# Altium integrated library Analog_Devices_Power_Management_Linear_Regulators.IntLib: 441 symbols (part 9 of 23)
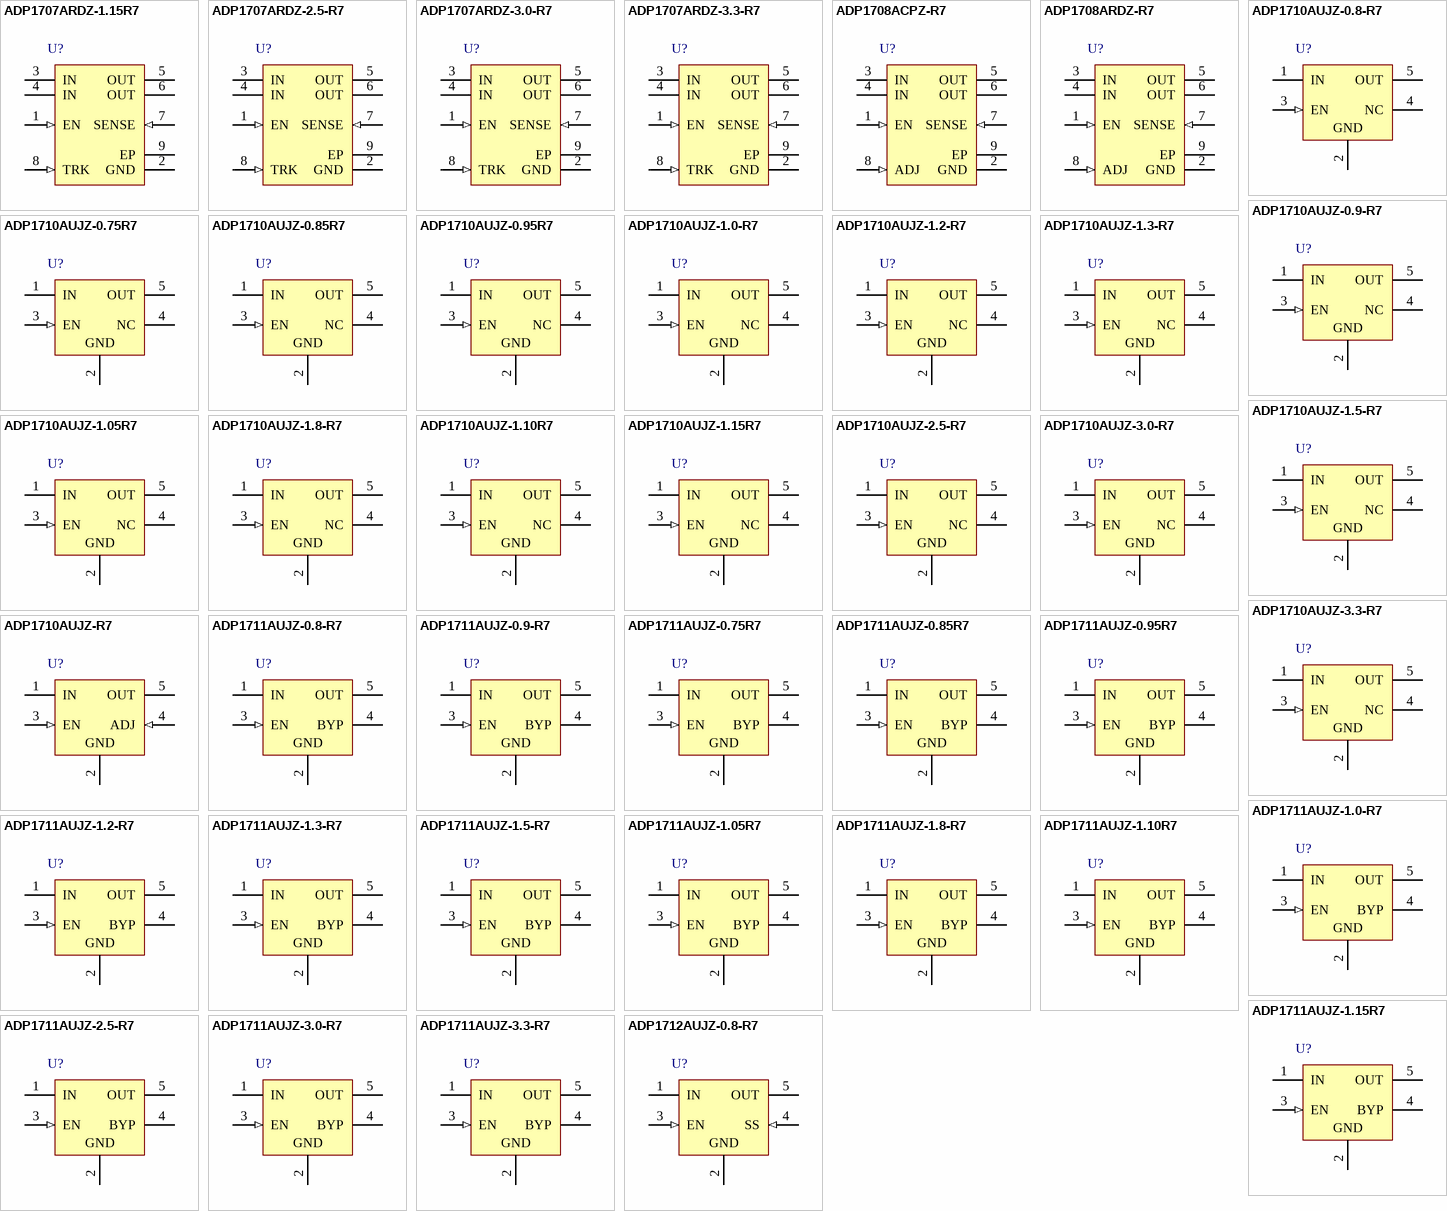
[diagram p19: symbols ADP1707ARDZ-1.15R7 to ADP1712AUJZ-0.8-R7]

## ADP1708ARDZ-R7
designator U?
1 A, Low Dropout, CMOS Linear Regulator, 2.5 to 5.5 V Vin, 0.8 to 5 V Vout, Industrial, 8-pin SOIC (RD-8-2), Reel; Manufacturer: Analog Devices; PartNumber: ADP1708ARDZ-R7; Iout max: 1A; Supply Current IGND @ Small Load: 50uA; Vin (max) (V): 5.5; Vin (min) (V): 2.5; Vout Adjustable Range: 0.8V to 5V; DatasheetVersion: Rev. 0; PackageVersion: Jan-05; PackageReference: RD-8-2; PackageDescription: 8-Pin Standard Small Outline Package, Body 4.9 x 3.9 mm, Pitch 1.27 mm; Supplier 1: Digi-Key; Supplier Part Number 1: ADP1708ARDZ-R7TR-ND; Supplier 2: Digi-Key; Supplier Part Number 2: ADP1708ARDZ-R7CT-ND; Supplier 3: Digi-Key; Supplier Part Number 3: ADP1708ARDZ-R7DKR-ND; Supplier 4: Farnell; Supplier Part Number 4: 2376936; Supplier 5: Newark; Supplier Part Number 5: 23X6016; Supplier 6: Newark; Supplier Part Number 6: 64M7471; Supplier 7: Mouser; Supplier Part Number 7: 584-ADP1708ARDZ-R7; Packing: Reel; Mounting Technology: Surface Mount; Code_JEDEC: MS-012-AA; ComponentLink1Description: Manufacturer URL; ComponentLink1URL: http://www.analog.com/en/index.html; ComponentLink2Description: Datasheet; ComponentLink2URL: http://www.analog.com/static/imported-files/data_sheets/ADP1706_1707_1708.pdf; ComponentLink3Description: Package Specification; ComponentLink3URL: http://www.analog.com/static/imported-files/packages/62062404671038RD_8_2.pdf; ComponentLink4Description: URL Link1; ComponentLink4URL: Product URL:http://www.analog.com/en/ADP1708/productSearch.html
footprint ADI-RD-8-2_N (SOIC, 8-Leads, Body 4.9x3.9mm, Pitch 1.27mm, Thermal Pad 3.098x2.41mm, IPC Medium Density)
footprint ADI-RD-8-2_L (SOIC, 8-Leads, Body 4.9x3.9mm, Pitch 1.27mm, Thermal Pad 3.098x2.41mm, IPC High Density)
footprint ADI-RD-8-2_M (SOIC, 8-Leads, Body 4.9x3.9mm, Pitch 1.27mm, Thermal Pad 3.098x2.41mm, IPC Low Density)
pins: 1 EN (in) "Enable Input. Drive EN high to turn on the regulator; drive it low to turn off the regulator. For automatic startup, connect EN to IN.", 2 GND (power) "Ground.", 3 IN (power) "Regulator Input Supply. Bypass IN to GND with a 4.7 uF or greater capacitor.", 4 IN (power) "Regulator Input Supply. Bypass IN to GND with a 4.7 uF or greater capacitor.", 5 OUT (power) "Regulated Output Voltage. Bypass OUT to GND with a 4.7 uF or greater capacitor.", 6 OUT (power) "Regulated Output Voltage. Bypass OUT to GND with a 4.7 uF or greater capacitor.", 7 SENSE (in) "Sense. Measures the actual output voltage at the load and feeds it to the error amplifier. Connect SENSE as close as possible to the load to minimize the effect of IR drop between the regulator output and the load.", 8 ADJ (in) "Adjust. A resistor divider from OUT to ADJ sets the output voltage.", 9 EP (power) "The exposed pad on the bottom of the SOIC package and the LFCSP package. EP enhances thermal performance and is electrically connected to GND inside the package. User is recommended to connect EP to the ground plane on the (See Datasheet)"

## ADP1710AUJZ-0.8-R7
designator U?
150 mA, Low Dropout, CMOS Linear Regulator, 2.5 to 5.5 V Vin, 0.8 V Vout, Industrial, 5-pin SOT23 (UJ-5), Reel; Manufacturer: Analog Devices; PartNumber: ADP1710AUJZ-0.8-R7; Iout max: 150mA; Preset Vout Values (V): 0.8; Supply Current IGND @ Small Load: 35uA; Vin (max) (V): 5.5; Vin (min) (V): 2.5; DatasheetVersion: Rev. 0; PackageVersion: 100708-A, 10/2008; PackageReference: UJ-5; PackageDescription: 5-Pin Thin Small Outline Transistor Package, Body 2.9 x 1.6 mm, Pitch 0.95 mm; Supplier 1: Digi-Key; Supplier Part Number 1: ADP1710AUJZ-0.8-R7TR-ND; Supplier 2: Digi-Key; Supplier Part Number 2: ADP1710AUJZ-0.8-R7CT-ND; Supplier 3: Digi-Key; Supplier Part Number 3: ADP1710AUJZ-0.8-R7DKR-ND; Supplier 4: Newark; Supplier Part Number 4: 28M3773; Supplier 5: Mouser; Supplier Part Number 5: 584-ADP1710AUJZ0.8R7; Packing: Reel; Mounting Technology: Surface Mount; Code_JEDEC: MO-193-AB; ComponentLink1Description: Manufacturer URL; ComponentLink1URL: http://www.analog.com/en/index.html; ComponentLink2Description: Datasheet; ComponentLink2URL: http://www.analog.com/static/imported-files/data_sheets/ADP1710_1711.pdf; ComponentLink3Description: Package Specification; ComponentLink3URL: http:/www.analog.com/static/imported-files/packages/PKG_PDF/TSOT(UJ)/UJ_5.pdf; ComponentLink4Description: URL Link1; ComponentLink4URL: Product URL:http://www.analog.com/en/ADP1710/productSearch.html
footprint ADI-UJ-5_N (SOT23, 5-Leads, Body 2.9x1.6mm, Pitch 0.95mm, IPC Medium Density)
footprint ADI-UJ-5_L (SOT23, 5-Leads, Body 2.9x1.6mm, Pitch 0.95mm, IPC High Density)
footprint ADI-UJ-5_M (SOT23, 5-Leads, Body 2.9x1.6mm, Pitch 0.95mm, IPC Low Density)
pins: 1 IN (power) "Regulator Input Supply. Bypass IN to GND with a 1 uF or greater capacitor.", 2 GND (power) "Ground.", 3 EN (in) "Enable Input. Drive EN high to turn on the regulator; drive it low to turn off the regulator. For automatic startup, connect EN to IN.", 4 NC "No Connect.", 5 OUT (power) "Regulated Output Voltage. Bypass OUT to GND with a 1 uF or greater capacitor."

## ADP1710AUJZ-0.9-R7
designator U?
150 mA, Low Dropout, CMOS Linear Regulator, 2.5 to 5.5 V Vin, 0.9 V Vout, Industrial, 5-pin SOT23 (UJ-5), Reel; Manufacturer: Analog Devices; PartNumber: ADP1710AUJZ-0.9-R7; Iout max: 150mA; Preset Vout Values (V): 0.9; Supply Current IGND @ Small Load: 35uA; Vin (max) (V): 5.5; Vin (min) (V): 2.5; DatasheetVersion: Rev. 0; PackageVersion: 100708-A, 10/2008; PackageReference: UJ-5; PackageDescription: 5-Pin Thin Small Outline Transistor Package, Body 2.9 x 1.6 mm, Pitch 0.95 mm; Supplier 1: Digi-Key; Supplier Part Number 1: ADP1710AUJZ-0.9-R7TR-ND; Supplier 2: Digi-Key; Supplier Part Number 2: ADP1710AUJZ-0.9-R7CT-ND; Supplier 3: Digi-Key; Supplier Part Number 3: ADP1710AUJZ-0.9-R7DKR-ND; Supplier 4: Mouser; Supplier Part Number 4: 584-ADP1710AUJZ0.9R7; Packing: Reel; Mounting Technology: Surface Mount; Code_JEDEC: MO-193-AB; ComponentLink1Description: Manufacturer URL; ComponentLink1URL: http://www.analog.com/en/index.html; ComponentLink2Description: Datasheet; ComponentLink2URL: http://www.analog.com/static/imported-files/data_sheets/ADP1710_1711.pdf; ComponentLink3Description: Package Specification; ComponentLink3URL: http:/www.analog.com/static/imported-files/packages/PKG_PDF/TSOT(UJ)/UJ_5.pdf; ComponentLink4Description: URL Link1; ComponentLink4URL: Product URL:http://www.analog.com/en/ADP1710/productSearch.html
footprint ADI-UJ-5_N (SOT23, 5-Leads, Body 2.9x1.6mm, Pitch 0.95mm, IPC Medium Density)
footprint ADI-UJ-5_L (SOT23, 5-Leads, Body 2.9x1.6mm, Pitch 0.95mm, IPC High Density)
footprint ADI-UJ-5_M (SOT23, 5-Leads, Body 2.9x1.6mm, Pitch 0.95mm, IPC Low Density)
pins: 1 IN (power) "Regulator Input Supply. Bypass IN to GND with a 1 uF or greater capacitor.", 2 GND (power) "Ground.", 3 EN (in) "Enable Input. Drive EN high to turn on the regulator; drive it low to turn off the regulator. For automatic startup, connect EN to IN.", 4 NC "No Connect.", 5 OUT (power) "Regulated Output Voltage. Bypass OUT to GND with a 1 uF or greater capacitor."

## ADP1710AUJZ-0.75R7
designator U?
150 mA, Low Dropout, CMOS Linear Regulator, 2.5 to 5.5 V Vin, 0.75 V Vout, Industrial, 5-pin SOT23 (UJ-5), Reel; Manufacturer: Analog Devices; PartNumber: ADP1710AUJZ-0.75R7; Iout max: 150mA; Preset Vout Values (V): 0.75; Supply Current IGND @ Small Load: 35uA; Vin (max) (V): 5.5; Vin (min) (V): 2.5; DatasheetVersion: Rev. 0; PackageVersion: 100708-A, 10/2008; PackageReference: UJ-5; PackageDescription: 5-Pin Thin Small Outline Transistor Package, Body 2.9 x 1.6 mm, Pitch 0.95 mm; Supplier 1: Digi-Key; Supplier Part Number 1: ADP1710AUJZ-0.75R7TR-ND; Supplier 2: Digi-Key; Supplier Part Number 2: ADP1710AUJZ-0.75R7CT-ND; Supplier 3: Digi-Key; Supplier Part Number 3: ADP1710AUJZ-0.75R7DKR-ND; Supplier 4: Mouser; Supplier Part Number 4: 584-AP1710AUJZ0.75R7; Packing: Reel; Mounting Technology: Surface Mount; Code_JEDEC: MO-193-AB; ComponentLink1Description: Manufacturer URL; ComponentLink1URL: http://www.analog.com/en/index.html; ComponentLink2Description: Datasheet; ComponentLink2URL: http://www.analog.com/static/imported-files/data_sheets/ADP1710_1711.pdf; ComponentLink3Description: Package Specification; ComponentLink3URL: http:/www.analog.com/static/imported-files/packages/PKG_PDF/TSOT(UJ)/UJ_5.pdf; ComponentLink4Description: URL Link1; ComponentLink4URL: Product URL:http://www.analog.com/en/ADP1710/productSearch.html
footprint ADI-UJ-5_N (SOT23, 5-Leads, Body 2.9x1.6mm, Pitch 0.95mm, IPC Medium Density)
footprint ADI-UJ-5_L (SOT23, 5-Leads, Body 2.9x1.6mm, Pitch 0.95mm, IPC High Density)
footprint ADI-UJ-5_M (SOT23, 5-Leads, Body 2.9x1.6mm, Pitch 0.95mm, IPC Low Density)
pins: 1 IN (power) "Regulator Input Supply. Bypass IN to GND with a 1 uF or greater capacitor.", 2 GND (power) "Ground.", 3 EN (in) "Enable Input. Drive EN high to turn on the regulator; drive it low to turn off the regulator. For automatic startup, connect EN to IN.", 4 NC "No Connect.", 5 OUT (power) "Regulated Output Voltage. Bypass OUT to GND with a 1 uF or greater capacitor."

## ADP1710AUJZ-0.85R7
designator U?
150 mA, Low Dropout, CMOS Linear Regulator, 2.5 to 5.5 V Vin, 0.85 V Vout, Industrial, 5-pin SOT23 (UJ-5), Reel; Manufacturer: Analog Devices; PartNumber: ADP1710AUJZ-0.85R7; Iout max: 150mA; Preset Vout Values (V): 0.85; Supply Current IGND @ Small Load: 35uA; Vin (max) (V): 5.5; Vin (min) (V): 2.5; DatasheetVersion: Rev. 0; PackageVersion: 100708-A, 10/2008; PackageReference: UJ-5; PackageDescription: 5-Pin Thin Small Outline Transistor Package, Body 2.9 x 1.6 mm, Pitch 0.95 mm; Supplier 1: Digi-Key; Supplier Part Number 1: ADP1710AUJZ-0.85R7TR-ND; Supplier 2: Digi-Key; Supplier Part Number 2: ADP1710AUJZ-0.85R7CT-ND; Supplier 3: Digi-Key; Supplier Part Number 3: ADP1710AUJZ-0.85R7DKR-ND; Supplier 4: Mouser; Supplier Part Number 4: 584-AP1710AUJZ0.85R7; Packing: Reel; Mounting Technology: Surface Mount; Code_JEDEC: MO-193-AB; ComponentLink1Description: Manufacturer URL; ComponentLink1URL: http://www.analog.com/en/index.html; ComponentLink2Description: Datasheet; ComponentLink2URL: http://www.analog.com/static/imported-files/data_sheets/ADP1710_1711.pdf; ComponentLink3Description: Package Specification; ComponentLink3URL: http:/www.analog.com/static/imported-files/packages/PKG_PDF/TSOT(UJ)/UJ_5.pdf; ComponentLink4Description: URL Link1; ComponentLink4URL: Product URL:http://www.analog.com/en/ADP1710/productSearch.html
footprint ADI-UJ-5_N (SOT23, 5-Leads, Body 2.9x1.6mm, Pitch 0.95mm, IPC Medium Density)
footprint ADI-UJ-5_L (SOT23, 5-Leads, Body 2.9x1.6mm, Pitch 0.95mm, IPC High Density)
footprint ADI-UJ-5_M (SOT23, 5-Leads, Body 2.9x1.6mm, Pitch 0.95mm, IPC Low Density)
pins: 1 IN (power) "Regulator Input Supply. Bypass IN to GND with a 1 uF or greater capacitor.", 2 GND (power) "Ground.", 3 EN (in) "Enable Input. Drive EN high to turn on the regulator; drive it low to turn off the regulator. For automatic startup, connect EN to IN.", 4 NC "No Connect.", 5 OUT (power) "Regulated Output Voltage. Bypass OUT to GND with a 1 uF or greater capacitor."

## ADP1710AUJZ-0.95R7
designator U?
150 mA, Low Dropout, CMOS Linear Regulator, 2.5 to 5.5 V Vin, 0.95 V Vout, Industrial, 5-pin SOT23 (UJ-5), Reel; Manufacturer: Analog Devices; PartNumber: ADP1710AUJZ-0.95R7; Iout max: 150mA; Preset Vout Values (V): 0.95; Supply Current IGND @ Small Load: 35uA; Vin (max) (V): 5.5; Vin (min) (V): 2.5; DatasheetVersion: Rev. 0; PackageVersion: 100708-A, 10/2008; PackageReference: UJ-5; PackageDescription: 5-Pin Thin Small Outline Transistor Package, Body 2.9 x 1.6 mm, Pitch 0.95 mm; Supplier 1: Digi-Key; Supplier Part Number 1: ADP1710AUJZ-0.95R7TR-ND; Supplier 2: Digi-Key; Supplier Part Number 2: ADP1710AUJZ-0.95R7CT-ND; Supplier 3: Digi-Key; Supplier Part Number 3: ADP1710AUJZ-0.95R7DKR-ND; Supplier 4: Mouser; Supplier Part Number 4: 584-AP1710AUJZ0.95R7; Packing: Reel; Mounting Technology: Surface Mount; Code_JEDEC: MO-193-AB; ComponentLink1Description: Manufacturer URL; ComponentLink1URL: http://www.analog.com/en/index.html; ComponentLink2Description: Datasheet; ComponentLink2URL: http://www.analog.com/static/imported-files/data_sheets/ADP1710_1711.pdf; ComponentLink3Description: Package Specification; ComponentLink3URL: http:/www.analog.com/static/imported-files/packages/PKG_PDF/TSOT(UJ)/UJ_5.pdf; ComponentLink4Description: URL Link1; ComponentLink4URL: Product URL:http://www.analog.com/en/ADP1710/productSearch.html
footprint ADI-UJ-5_N (SOT23, 5-Leads, Body 2.9x1.6mm, Pitch 0.95mm, IPC Medium Density)
footprint ADI-UJ-5_L (SOT23, 5-Leads, Body 2.9x1.6mm, Pitch 0.95mm, IPC High Density)
footprint ADI-UJ-5_M (SOT23, 5-Leads, Body 2.9x1.6mm, Pitch 0.95mm, IPC Low Density)
pins: 1 IN (power) "Regulator Input Supply. Bypass IN to GND with a 1 uF or greater capacitor.", 2 GND (power) "Ground.", 3 EN (in) "Enable Input. Drive EN high to turn on the regulator; drive it low to turn off the regulator. For automatic startup, connect EN to IN.", 4 NC "No Connect.", 5 OUT (power) "Regulated Output Voltage. Bypass OUT to GND with a 1 uF or greater capacitor."

## ADP1710AUJZ-1.0-R7
designator U?
150 mA, Low Dropout, CMOS Linear Regulator, 2.5 to 5.5 V Vin, 1 V Vout, Industrial, 5-pin SOT23 (UJ-5), Reel; Manufacturer: Analog Devices; PartNumber: ADP1710AUJZ-1.0-R7; Iout max: 150mA; Preset Vout Values (V): 1.0; Supply Current IGND @ Small Load: 35uA; Vin (max) (V): 5.5; Vin (min) (V): 2.5; DatasheetVersion: Rev. 0; PackageVersion: 100708-A, 10/2008; PackageReference: UJ-5; PackageDescription: 5-Pin Thin Small Outline Transistor Package, Body 2.9 x 1.6 mm, Pitch 0.95 mm; Supplier 1: Digi-Key; Supplier Part Number 1: ADP1710AUJZ-1.0-R7TR-ND; Supplier 2: Digi-Key; Supplier Part Number 2: ADP1710AUJZ-1.0-R7CT-ND; Supplier 3: Digi-Key; Supplier Part Number 3: ADP1710AUJZ-1.0-R7DKR-ND; Supplier 4: Mouser; Supplier Part Number 4: 584-ADP1710AUJZ1.0R7; Packing: Reel; Mounting Technology: Surface Mount; Code_JEDEC: MO-193-AB; ComponentLink1Description: Manufacturer URL; ComponentLink1URL: http://www.analog.com/en/index.html; ComponentLink2Description: Datasheet; ComponentLink2URL: http://www.analog.com/static/imported-files/data_sheets/ADP1710_1711.pdf; ComponentLink3Description: Package Specification; ComponentLink3URL: http:/www.analog.com/static/imported-files/packages/PKG_PDF/TSOT(UJ)/UJ_5.pdf; ComponentLink4Description: URL Link1; ComponentLink4URL: Product URL:http://www.analog.com/en/ADP1710/productSearch.html
footprint ADI-UJ-5_N (SOT23, 5-Leads, Body 2.9x1.6mm, Pitch 0.95mm, IPC Medium Density)
footprint ADI-UJ-5_L (SOT23, 5-Leads, Body 2.9x1.6mm, Pitch 0.95mm, IPC High Density)
footprint ADI-UJ-5_M (SOT23, 5-Leads, Body 2.9x1.6mm, Pitch 0.95mm, IPC Low Density)
pins: 1 IN (power) "Regulator Input Supply. Bypass IN to GND with a 1 uF or greater capacitor.", 2 GND (power) "Ground.", 3 EN (in) "Enable Input. Drive EN high to turn on the regulator; drive it low to turn off the regulator. For automatic startup, connect EN to IN.", 4 NC "No Connect.", 5 OUT (power) "Regulated Output Voltage. Bypass OUT to GND with a 1 uF or greater capacitor."

## ADP1710AUJZ-1.2-R7
designator U?
150 mA, Low Dropout, CMOS Linear Regulator, 2.5 to 5.5 V Vin, 1.2 V Vout, Industrial, 5-pin SOT23 (UJ-5), Reel; Manufacturer: Analog Devices; PartNumber: ADP1710AUJZ-1.2-R7; Iout max: 150mA; Preset Vout Values (V): 1.2; Supply Current IGND @ Small Load: 35uA; Vin (max) (V): 5.5; Vin (min) (V): 2.5; DatasheetVersion: Rev. 0; PackageVersion: 100708-A, 10/2008; PackageReference: UJ-5; PackageDescription: 5-Pin Thin Small Outline Transistor Package, Body 2.9 x 1.6 mm, Pitch 0.95 mm; Supplier 1: Digi-Key; Supplier Part Number 1: ADP1710AUJZ-1.2-R7TR-ND; Supplier 2: Digi-Key; Supplier Part Number 2: ADP1710AUJZ-1.2-R7CT-ND; Supplier 3: Digi-Key; Supplier Part Number 3: ADP1710AUJZ-1.2-R7DKR-ND; Supplier 4: Farnell; Supplier Part Number 4: 2312960; Supplier 5: Newark; Supplier Part Number 5: 67W3143; Supplier 6: Newark; Supplier Part Number 6: 28M3780; Supplier 7: Mouser; Supplier Part Number 7: 584-ADP1710AUJZ1.2R7; Packing: Reel; Mounting Technology: Surface Mount; Code_JEDEC: MO-193-AB; ComponentLink1Description: Manufacturer URL; ComponentLink1URL: http://www.analog.com/en/index.html; ComponentLink2Description: Datasheet; ComponentLink2URL: http://www.analog.com/static/imported-files/data_sheets/ADP1710_1711.pdf; ComponentLink3Description: Package Specification; ComponentLink3URL: http:/www.analog.com/static/imported-files/packages/PKG_PDF/TSOT(UJ)/UJ_5.pdf; ComponentLink4Description: URL Link1; ComponentLink4URL: Product URL:http://www.analog.com/en/ADP1710/productSearch.html
footprint ADI-UJ-5_N (SOT23, 5-Leads, Body 2.9x1.6mm, Pitch 0.95mm, IPC Medium Density)
footprint ADI-UJ-5_L (SOT23, 5-Leads, Body 2.9x1.6mm, Pitch 0.95mm, IPC High Density)
footprint ADI-UJ-5_M (SOT23, 5-Leads, Body 2.9x1.6mm, Pitch 0.95mm, IPC Low Density)
pins: 1 IN (power) "Regulator Input Supply. Bypass IN to GND with a 1 uF or greater capacitor.", 2 GND (power) "Ground.", 3 EN (in) "Enable Input. Drive EN high to turn on the regulator; drive it low to turn off the regulator. For automatic startup, connect EN to IN.", 4 NC "No Connect.", 5 OUT (power) "Regulated Output Voltage. Bypass OUT to GND with a 1 uF or greater capacitor."

## ADP1710AUJZ-1.3-R7
designator U?
150 mA, Low Dropout, CMOS Linear Regulator, 2.5 to 5.5 V Vin, 1.3 V Vout, Industrial, 5-pin SOT23 (UJ-5), Reel; Manufacturer: Analog Devices; PartNumber: ADP1710AUJZ-1.3-R7; Iout max: 150mA; Preset Vout Values (V): 1.3; Supply Current IGND @ Small Load: 35uA; Vin (max) (V): 5.5; Vin (min) (V): 2.5; DatasheetVersion: Rev. 0; PackageVersion: 100708-A, 10/2008; PackageReference: UJ-5; PackageDescription: 5-Pin Thin Small Outline Transistor Package, Body 2.9 x 1.6 mm, Pitch 0.95 mm; Supplier 1: Digi-Key; Supplier Part Number 1: ADP1710AUJZ-1.3-R7TR-ND; Supplier 2: Digi-Key; Supplier Part Number 2: ADP1710AUJZ-1.3-R7CT-ND; Supplier 3: Digi-Key; Supplier Part Number 3: ADP1710AUJZ-1.3-R7DKR-ND; Supplier 4: Mouser; Supplier Part Number 4: 584-ADP1710AUJZ1.3R7; Packing: Reel; Mounting Technology: Surface Mount; Code_JEDEC: MO-193-AB; ComponentLink1Description: Manufacturer URL; ComponentLink1URL: http://www.analog.com/en/index.html; ComponentLink2Description: Datasheet; ComponentLink2URL: http://www.analog.com/static/imported-files/data_sheets/ADP1710_1711.pdf; ComponentLink3Description: Package Specification; ComponentLink3URL: http:/www.analog.com/static/imported-files/packages/PKG_PDF/TSOT(UJ)/UJ_5.pdf; ComponentLink4Description: URL Link1; ComponentLink4URL: Product URL:http://www.analog.com/en/ADP1710/productSearch.html
footprint ADI-UJ-5_N (SOT23, 5-Leads, Body 2.9x1.6mm, Pitch 0.95mm, IPC Medium Density)
footprint ADI-UJ-5_L (SOT23, 5-Leads, Body 2.9x1.6mm, Pitch 0.95mm, IPC High Density)
footprint ADI-UJ-5_M (SOT23, 5-Leads, Body 2.9x1.6mm, Pitch 0.95mm, IPC Low Density)
pins: 1 IN (power) "Regulator Input Supply. Bypass IN to GND with a 1 uF or greater capacitor.", 2 GND (power) "Ground.", 3 EN (in) "Enable Input. Drive EN high to turn on the regulator; drive it low to turn off the regulator. For automatic startup, connect EN to IN.", 4 NC "No Connect.", 5 OUT (power) "Regulated Output Voltage. Bypass OUT to GND with a 1 uF or greater capacitor."

## ADP1710AUJZ-1.5-R7
designator U?
150 mA, Low Dropout, CMOS Linear Regulator, 2.5 to 5.5 V Vin, 1.5 V Vout, Industrial, 5-pin SOT23 (UJ-5), Reel; Manufacturer: Analog Devices; PartNumber: ADP1710AUJZ-1.5-R7; Iout max: 150mA; Preset Vout Values (V): 1.5; Supply Current IGND @ Small Load: 35uA; Vin (max) (V): 5.5; Vin (min) (V): 2.5; DatasheetVersion: Rev. 0; PackageVersion: 100708-A, 10/2008; PackageReference: UJ-5; PackageDescription: 5-Pin Thin Small Outline Transistor Package, Body 2.9 x 1.6 mm, Pitch 0.95 mm; Supplier 1: Digi-Key; Supplier Part Number 1: ADP1710AUJZ-1.5-R7TR-ND; Supplier 2: Digi-Key; Supplier Part Number 2: ADP1710AUJZ-1.5-R7CT-ND; Supplier 3: Digi-Key; Supplier Part Number 3: ADP1710AUJZ-1.5-R7DKR-ND; Supplier 4: Mouser; Supplier Part Number 4: 584-ADP1710AUJZ1.5R7; Packing: Reel; Mounting Technology: Surface Mount; Code_JEDEC: MO-193-AB; ComponentLink1Description: Manufacturer URL; ComponentLink1URL: http://www.analog.com/en/index.html; ComponentLink2Description: Datasheet; ComponentLink2URL: http://www.analog.com/static/imported-files/data_sheets/ADP1710_1711.pdf; ComponentLink3Description: Package Specification; ComponentLink3URL: http:/www.analog.com/static/imported-files/packages/PKG_PDF/TSOT(UJ)/UJ_5.pdf; ComponentLink4Description: URL Link1; ComponentLink4URL: Product URL:http://www.analog.com/en/ADP1710/productSearch.html
footprint ADI-UJ-5_N (SOT23, 5-Leads, Body 2.9x1.6mm, Pitch 0.95mm, IPC Medium Density)
footprint ADI-UJ-5_L (SOT23, 5-Leads, Body 2.9x1.6mm, Pitch 0.95mm, IPC High Density)
footprint ADI-UJ-5_M (SOT23, 5-Leads, Body 2.9x1.6mm, Pitch 0.95mm, IPC Low Density)
pins: 1 IN (power) "Regulator Input Supply. Bypass IN to GND with a 1 uF or greater capacitor.", 2 GND (power) "Ground.", 3 EN (in) "Enable Input. Drive EN high to turn on the regulator; drive it low to turn off the regulator. For automatic startup, connect EN to IN.", 4 NC "No Connect.", 5 OUT (power) "Regulated Output Voltage. Bypass OUT to GND with a 1 uF or greater capacitor."

## ADP1710AUJZ-1.05R7
designator U?
150 mA, Low Dropout, CMOS Linear Regulator, 2.5 to 5.5 V Vin, 1.05 V Vout, Industrial, 5-pin SOT23 (UJ-5), Reel; Manufacturer: Analog Devices; PartNumber: ADP1710AUJZ-1.05R7; Iout max: 150mA; Preset Vout Values (V): 1.05; Supply Current IGND @ Small Load: 35uA; Vin (max) (V): 5.5; Vin (min) (V): 2.5; DatasheetVersion: Rev. 0; PackageVersion: 100708-A, 10/2008; PackageReference: UJ-5; PackageDescription: 5-Pin Thin Small Outline Transistor Package, Body 2.9 x 1.6 mm, Pitch 0.95 mm; Supplier 1: Digi-Key; Supplier Part Number 1: ADP1710AUJZ-1.05R7TR-ND; Supplier 2: Digi-Key; Supplier Part Number 2: ADP1710AUJZ-1.05R7CT-ND; Supplier 3: Digi-Key; Supplier Part Number 3: ADP1710AUJZ-1.05R7DKR-ND; Supplier 4: Mouser; Supplier Part Number 4: 584-AP1710AUJZ1.05R7; Packing: Reel; Mounting Technology: Surface Mount; Code_JEDEC: MO-193-AB; ComponentLink1Description: Manufacturer URL; ComponentLink1URL: http://www.analog.com/en/index.html; ComponentLink2Description: Datasheet; ComponentLink2URL: http://www.analog.com/static/imported-files/data_sheets/ADP1710_1711.pdf; ComponentLink3Description: Package Specification; ComponentLink3URL: http:/www.analog.com/static/imported-files/packages/PKG_PDF/TSOT(UJ)/UJ_5.pdf; ComponentLink4Description: URL Link1; ComponentLink4URL: Product URL:http://www.analog.com/en/ADP1710/productSearch.html
footprint ADI-UJ-5_N (SOT23, 5-Leads, Body 2.9x1.6mm, Pitch 0.95mm, IPC Medium Density)
footprint ADI-UJ-5_L (SOT23, 5-Leads, Body 2.9x1.6mm, Pitch 0.95mm, IPC High Density)
footprint ADI-UJ-5_M (SOT23, 5-Leads, Body 2.9x1.6mm, Pitch 0.95mm, IPC Low Density)
pins: 1 IN (power) "Regulator Input Supply. Bypass IN to GND with a 1 uF or greater capacitor.", 2 GND (power) "Ground.", 3 EN (in) "Enable Input. Drive EN high to turn on the regulator; drive it low to turn off the regulator. For automatic startup, connect EN to IN.", 4 NC "No Connect.", 5 OUT (power) "Regulated Output Voltage. Bypass OUT to GND with a 1 uF or greater capacitor."

## ADP1710AUJZ-1.8-R7
designator U?
150 mA, Low Dropout, CMOS Linear Regulator, 2.5 to 5.5 V Vin, 1.8 V Vout, Industrial, 5-pin SOT23 (UJ-5), Reel; Manufacturer: Analog Devices; PartNumber: ADP1710AUJZ-1.8-R7; Iout max: 150mA; Preset Vout Values (V): 1.8; Supply Current IGND @ Small Load: 35uA; Vin (max) (V): 5.5; Vin (min) (V): 2.5; DatasheetVersion: Rev. 0; PackageVersion: 100708-A, 10/2008; PackageReference: UJ-5; PackageDescription: 5-Pin Thin Small Outline Transistor Package, Body 2.9 x 1.6 mm, Pitch 0.95 mm; Supplier 1: Digi-Key; Supplier Part Number 1: ADP1710AUJZ-1.8-R7TR-ND; Supplier 2: Digi-Key; Supplier Part Number 2: ADP1710AUJZ-1.8-R7CT-ND; Supplier 3: Digi-Key; Supplier Part Number 3: ADP1710AUJZ-1.8-R7DKR-ND; Supplier 4: Newark; Supplier Part Number 4: 28M3783; Supplier 5: Mouser; Supplier Part Number 5: 584-ADP1710AUJZ1.8R7; Packing: Reel; Mounting Technology: Surface Mount; Code_JEDEC: MO-193-AB; ComponentLink1Description: Manufacturer URL; ComponentLink1URL: http://www.analog.com/en/index.html; ComponentLink2Description: Datasheet; ComponentLink2URL: http://www.analog.com/static/imported-files/data_sheets/ADP1710_1711.pdf; ComponentLink3Description: Package Specification; ComponentLink3URL: http:/www.analog.com/static/imported-files/packages/PKG_PDF/TSOT(UJ)/UJ_5.pdf; ComponentLink4Description: URL Link1; ComponentLink4URL: Product URL:http://www.analog.com/en/ADP1710/productSearch.html
footprint ADI-UJ-5_N (SOT23, 5-Leads, Body 2.9x1.6mm, Pitch 0.95mm, IPC Medium Density)
footprint ADI-UJ-5_L (SOT23, 5-Leads, Body 2.9x1.6mm, Pitch 0.95mm, IPC High Density)
footprint ADI-UJ-5_M (SOT23, 5-Leads, Body 2.9x1.6mm, Pitch 0.95mm, IPC Low Density)
pins: 1 IN (power) "Regulator Input Supply. Bypass IN to GND with a 1 uF or greater capacitor.", 2 GND (power) "Ground.", 3 EN (in) "Enable Input. Drive EN high to turn on the regulator; drive it low to turn off the regulator. For automatic startup, connect EN to IN.", 4 NC "No Connect.", 5 OUT (power) "Regulated Output Voltage. Bypass OUT to GND with a 1 uF or greater capacitor."

## ADP1710AUJZ-1.10R7
designator U?
150 mA, Low Dropout, CMOS Linear Regulator, 2.5 to 5.5 V Vin, 1.1 V Vout, Industrial, 5-pin SOT23 (UJ-5), Reel; Manufacturer: Analog Devices; PartNumber: ADP1710AUJZ-1.10R7; Iout max: 150mA; Preset Vout Values (V): 1.10; Supply Current IGND @ Small Load: 35uA; Vin (max) (V): 5.5; Vin (min) (V): 2.5; DatasheetVersion: Rev. 0; PackageVersion: 100708-A, 10/2008; PackageReference: UJ-5; PackageDescription: 5-Pin Thin Small Outline Transistor Package, Body 2.9 x 1.6 mm, Pitch 0.95 mm; Supplier 1: Digi-Key; Supplier Part Number 1: ADP1710AUJZ-1.10R7TR-ND; Supplier 2: Digi-Key; Supplier Part Number 2: ADP1710AUJZ-1.10R7CT-ND; Supplier 3: Digi-Key; Supplier Part Number 3: ADP1710AUJZ-1.10R7DKR-ND; Supplier 4: Mouser; Supplier Part Number 4: 584-AP1710AUJZ1.10R7; Packing: Reel; Mounting Technology: Surface Mount; Code_JEDEC: MO-193-AB; ComponentLink1Description: Manufacturer URL; ComponentLink1URL: http://www.analog.com/en/index.html; ComponentLink2Description: Datasheet; ComponentLink2URL: http://www.analog.com/static/imported-files/data_sheets/ADP1710_1711.pdf; ComponentLink3Description: Package Specification; ComponentLink3URL: http:/www.analog.com/static/imported-files/packages/PKG_PDF/TSOT(UJ)/UJ_5.pdf; ComponentLink4Description: URL Link1; ComponentLink4URL: Product URL:http://www.analog.com/en/ADP1710/productSearch.html
footprint ADI-UJ-5_N (SOT23, 5-Leads, Body 2.9x1.6mm, Pitch 0.95mm, IPC Medium Density)
footprint ADI-UJ-5_L (SOT23, 5-Leads, Body 2.9x1.6mm, Pitch 0.95mm, IPC High Density)
footprint ADI-UJ-5_M (SOT23, 5-Leads, Body 2.9x1.6mm, Pitch 0.95mm, IPC Low Density)
pins: 1 IN (power) "Regulator Input Supply. Bypass IN to GND with a 1 uF or greater capacitor.", 2 GND (power) "Ground.", 3 EN (in) "Enable Input. Drive EN high to turn on the regulator; drive it low to turn off the regulator. For automatic startup, connect EN to IN.", 4 NC "No Connect.", 5 OUT (power) "Regulated Output Voltage. Bypass OUT to GND with a 1 uF or greater capacitor."

## ADP1710AUJZ-1.15R7
designator U?
150 mA, Low Dropout, CMOS Linear Regulator, 2.5 to 5.5 V Vin, 1.15 V Vout, Industrial, 5-pin SOT23 (UJ-5), Reel; Manufacturer: Analog Devices; PartNumber: ADP1710AUJZ-1.15R7; Iout max: 150mA; Preset Vout Values (V): 1.15; Supply Current IGND @ Small Load: 35uA; Vin (max) (V): 5.5; Vin (min) (V): 2.5; DatasheetVersion: Rev. 0; PackageVersion: 100708-A, 10/2008; PackageReference: UJ-5; PackageDescription: 5-Pin Thin Small Outline Transistor Package, Body 2.9 x 1.6 mm, Pitch 0.95 mm; Supplier 1: Digi-Key; Supplier Part Number 1: ADP1710AUJZ-1.15R7TR-ND; Supplier 2: Digi-Key; Supplier Part Number 2: ADP1710AUJZ-1.15R7CT-ND; Supplier 3: Digi-Key; Supplier Part Number 3: ADP1710AUJZ-1.15R7DKR-ND; Supplier 4: Mouser; Supplier Part Number 4: 584-AP1710AUJZ1.15R7; Packing: Reel; Mounting Technology: Surface Mount; Code_JEDEC: MO-193-AB; ComponentLink1Description: Manufacturer URL; ComponentLink1URL: http://www.analog.com/en/index.html; ComponentLink2Description: Datasheet; ComponentLink2URL: http://www.analog.com/static/imported-files/data_sheets/ADP1710_1711.pdf; ComponentLink3Description: Package Specification; ComponentLink3URL: http:/www.analog.com/static/imported-files/packages/PKG_PDF/TSOT(UJ)/UJ_5.pdf; ComponentLink4Description: URL Link1; ComponentLink4URL: Product URL:http://www.analog.com/en/ADP1710/productSearch.html
footprint ADI-UJ-5_N (SOT23, 5-Leads, Body 2.9x1.6mm, Pitch 0.95mm, IPC Medium Density)
footprint ADI-UJ-5_L (SOT23, 5-Leads, Body 2.9x1.6mm, Pitch 0.95mm, IPC High Density)
footprint ADI-UJ-5_M (SOT23, 5-Leads, Body 2.9x1.6mm, Pitch 0.95mm, IPC Low Density)
pins: 1 IN (power) "Regulator Input Supply. Bypass IN to GND with a 1 uF or greater capacitor.", 2 GND (power) "Ground.", 3 EN (in) "Enable Input. Drive EN high to turn on the regulator; drive it low to turn off the regulator. For automatic startup, connect EN to IN.", 4 NC "No Connect.", 5 OUT (power) "Regulated Output Voltage. Bypass OUT to GND with a 1 uF or greater capacitor."

## ADP1710AUJZ-2.5-R7
designator U?
150 mA, Low Dropout, CMOS Linear Regulator, 2.5 to 5.5 V Vin, 2.5 V Vout, Industrial, 5-pin SOT23 (UJ-5), Reel; Manufacturer: Analog Devices; PartNumber: ADP1710AUJZ-2.5-R7; Iout max: 150mA; Preset Vout Values (V): 2.5; Supply Current IGND @ Small Load: 35uA; Vin (max) (V): 5.5; DatasheetVersion: Rev. 0; PackageVersion: 100708-A, 10/2008; PackageReference: UJ-5; PackageDescription: 5-Pin Thin Small Outline Transistor Package, Body 2.9 x 1.6 mm, Pitch 0.95 mm; Supplier 1: Digi-Key; Supplier Part Number 1: ADP1710AUJZ-2.5-R7TR-ND; Supplier 2: Digi-Key; Supplier Part Number 2: ADP1710AUJZ-2.5-R7CT-ND; Supplier 3: Digi-Key; Supplier Part Number 3: ADP1710AUJZ-2.5-R7DKR-ND; Supplier 4: Farnell; Supplier Part Number 4: 2312961; Supplier 5: Newark; Supplier Part Number 5: 67W3144; Supplier 6: Newark; Supplier Part Number 6: 28M3784; Supplier 7: Mouser; Supplier Part Number 7: 584-ADP1710AUJZ2.5R7; Packing: Reel; Vin (min) (V): 2.5; Mounting Technology: Surface Mount; Code_JEDEC: MO-193-AB; ComponentLink1Description: Manufacturer URL; ComponentLink1URL: http://www.analog.com/en/index.html; ComponentLink2Description: Datasheet; ComponentLink2URL: http://www.analog.com/static/imported-files/data_sheets/ADP1710_1711.pdf; ComponentLink3Description: Package Specification; ComponentLink3URL: http:/www.analog.com/static/imported-files/packages/PKG_PDF/TSOT(UJ)/UJ_5.pdf; ComponentLink4Description: URL Link1; ComponentLink4URL: Product URL:http://www.analog.com/en/ADP1710/productSearch.html
footprint ADI-UJ-5_N (SOT23, 5-Leads, Body 2.9x1.6mm, Pitch 0.95mm, IPC Medium Density)
footprint ADI-UJ-5_L (SOT23, 5-Leads, Body 2.9x1.6mm, Pitch 0.95mm, IPC High Density)
footprint ADI-UJ-5_M (SOT23, 5-Leads, Body 2.9x1.6mm, Pitch 0.95mm, IPC Low Density)
pins: 1 IN (power) "Regulator Input Supply. Bypass IN to GND with a 1 uF or greater capacitor.", 2 GND (power) "Ground.", 3 EN (in) "Enable Input. Drive EN high to turn on the regulator; drive it low to turn off the regulator. For automatic startup, connect EN to IN.", 4 NC "No Connect.", 5 OUT (power) "Regulated Output Voltage. Bypass OUT to GND with a 1 uF or greater capacitor."

## ADP1710AUJZ-3.0-R7
designator U?
150 mA, Low Dropout, CMOS Linear Regulator, 2.5 to 5.5 V Vin, 3 V Vout, Industrial, 5-pin SOT23 (UJ-5), Reel; Manufacturer: Analog Devices; PartNumber: ADP1710AUJZ-3.0-R7; Iout max: 150mA; Preset Vout Values (V): 3.0; Supply Current IGND @ Small Load: 35uA; Vin (max) (V): 5.5; Vin (min) (V): 2.5; DatasheetVersion: Rev. 0; PackageVersion: 100708-A, 10/2008; PackageReference: UJ-5; PackageDescription: 5-Pin Thin Small Outline Transistor Package, Body 2.9 x 1.6 mm, Pitch 0.95 mm; Supplier 1: Digi-Key; Supplier Part Number 1: ADP1710AUJZ-3.0-R7TR-ND; Supplier 2: Digi-Key; Supplier Part Number 2: ADP1710AUJZ-3.0-R7CT-ND; Supplier 3: Digi-Key; Supplier Part Number 3: ADP1710AUJZ-3.0-R7DKR-ND; Supplier 4: Mouser; Supplier Part Number 4: 584-ADP1710AUJZ3.0R7; Packing: Reel; Mounting Technology: Surface Mount; Code_JEDEC: MO-193-AB; ComponentLink1Description: Manufacturer URL; ComponentLink1URL: http://www.analog.com/en/index.html; ComponentLink2Description: Datasheet; ComponentLink2URL: http://www.analog.com/static/imported-files/data_sheets/ADP1710_1711.pdf; ComponentLink3Description: Package Specification; ComponentLink3URL: http:/www.analog.com/static/imported-files/packages/PKG_PDF/TSOT(UJ)/UJ_5.pdf; ComponentLink4Description: URL Link1; ComponentLink4URL: Product URL:http://www.analog.com/en/ADP1710/productSearch.html
footprint ADI-UJ-5_N (SOT23, 5-Leads, Body 2.9x1.6mm, Pitch 0.95mm, IPC Medium Density)
footprint ADI-UJ-5_L (SOT23, 5-Leads, Body 2.9x1.6mm, Pitch 0.95mm, IPC High Density)
footprint ADI-UJ-5_M (SOT23, 5-Leads, Body 2.9x1.6mm, Pitch 0.95mm, IPC Low Density)
pins: 1 IN (power) "Regulator Input Supply. Bypass IN to GND with a 1 uF or greater capacitor.", 2 GND (power) "Ground.", 3 EN (in) "Enable Input. Drive EN high to turn on the regulator; drive it low to turn off the regulator. For automatic startup, connect EN to IN.", 4 NC "No Connect.", 5 OUT (power) "Regulated Output Voltage. Bypass OUT to GND with a 1 uF or greater capacitor."

## ADP1710AUJZ-3.3-R7
designator U?
150 mA, Low Dropout, CMOS Linear Regulator, 2.5 to 5.5 V Vin, 3.3 V Vout, Industrial, 5-pin SOT23 (UJ-5), Reel; Manufacturer: Analog Devices; PartNumber: ADP1710AUJZ-3.3-R7; Iout max: 150mA; Preset Vout Values (V): 3.3; Supply Current IGND @ Small Load: 35uA; Vin (max) (V): 5.5; Vin (min) (V): 2.5; DatasheetVersion: Rev. 0; PackageVersion: 100708-A, 10/2008; PackageReference: UJ-5; PackageDescription: 5-Pin Thin Small Outline Transistor Package, Body 2.9 x 1.6 mm, Pitch 0.95 mm; Supplier 1: Digi-Key; Supplier Part Number 1: ADP1710AUJZ-3.3-R7TR-ND; Supplier 2: Digi-Key; Supplier Part Number 2: ADP1710AUJZ-3.3-R7CT-ND; Supplier 3: Digi-Key; Supplier Part Number 3: ADP1710AUJZ-3.3-R7DKR-ND; Supplier 4: Mouser; Supplier Part Number 4: 584-ADP1710AUJZ3.3R7; Packing: Reel; Mounting Technology: Surface Mount; Code_JEDEC: MO-193-AB; ComponentLink1Description: Manufacturer URL; ComponentLink1URL: http://www.analog.com/en/index.html; ComponentLink2Description: Datasheet; ComponentLink2URL: http://www.analog.com/static/imported-files/data_sheets/ADP1710_1711.pdf; ComponentLink3Description: Package Specification; ComponentLink3URL: http:/www.analog.com/static/imported-files/packages/PKG_PDF/TSOT(UJ)/UJ_5.pdf; ComponentLink4Description: URL Link1; ComponentLink4URL: Product URL:http://www.analog.com/en/ADP1710/productSearch.html
footprint ADI-UJ-5_N (SOT23, 5-Leads, Body 2.9x1.6mm, Pitch 0.95mm, IPC Medium Density)
footprint ADI-UJ-5_L (SOT23, 5-Leads, Body 2.9x1.6mm, Pitch 0.95mm, IPC High Density)
footprint ADI-UJ-5_M (SOT23, 5-Leads, Body 2.9x1.6mm, Pitch 0.95mm, IPC Low Density)
pins: 1 IN (power) "Regulator Input Supply. Bypass IN to GND with a 1 uF or greater capacitor.", 2 GND (power) "Ground.", 3 EN (in) "Enable Input. Drive EN high to turn on the regulator; drive it low to turn off the regulator. For automatic startup, connect EN to IN.", 4 NC "No Connect.", 5 OUT (power) "Regulated Output Voltage. Bypass OUT to GND with a 1 uF or greater capacitor."

## ADP1710AUJZ-R7
designator U?
150 mA, Low Dropout, CMOS Linear Regulator, 2.5 to 5.5 V Vin, 0.8 to 5.0 V Vout, Industrial, 5-pin SOT23 (UJ-5), Reel; Manufacturer: Analog Devices; PartNumber: ADP1710AUJZ-R7; Iout max: 150mA; Supply Current IGND @ Small Load: 35uA; Vin (max) (V): 5.5; Vin (min) (V): 2.5; Vout Adjustable Range: 0.8 V to 5.0 V; DatasheetVersion: Rev. 0; PackageVersion: 100708-A, 10/2008; PackageReference: UJ-5; PackageDescription: 5-Pin Thin Small Outline Transistor Package, Body 2.9 x 1.6 mm, Pitch 0.95 mm; Supplier 1: Digi-Key; Supplier Part Number 1: ADP1710AUJZ-R7TR-ND; Supplier 2: Digi-Key; Supplier Part Number 2: ADP1710AUJZ-R7CT-ND; Supplier 3: Digi-Key; Supplier Part Number 3: ADP1710AUJZ-R7DKR-ND; Supplier 4: Farnell; Supplier Part Number 4: 2291569; Supplier 5: Farnell; Supplier Part Number 5: 2316033; Supplier 6: Newark; Supplier Part Number 6: 63W5347; Supplier 7: Newark; Supplier Part Number 7: 28M3771; Supplier 8: Mouser; Supplier Part Number 8: 584-ADP1710AUJZ-R7; Packing: Reel; Mounting Technology: Surface Mount; Code_JEDEC: MO-193-AB; ComponentLink1Description: Manufacturer URL; ComponentLink1URL: http://www.analog.com/en/index.html; ComponentLink2Description: Datasheet; ComponentLink2URL: http://www.analog.com/static/imported-files/data_sheets/ADP1710_1711.pdf; ComponentLink3Description: Package Specification; ComponentLink3URL: http:/www.analog.com/static/imported-files/packages/PKG_PDF/TSOT(UJ)/UJ_5.pdf; ComponentLink4Description: URL Link1; ComponentLink4URL: Product URL:http://www.analog.com/en/ADP1710/productSearch.html
footprint ADI-UJ-5_N (SOT23, 5-Leads, Body 2.9x1.6mm, Pitch 0.95mm, IPC Medium Density)
footprint ADI-UJ-5_L (SOT23, 5-Leads, Body 2.9x1.6mm, Pitch 0.95mm, IPC High Density)
footprint ADI-UJ-5_M (SOT23, 5-Leads, Body 2.9x1.6mm, Pitch 0.95mm, IPC Low Density)
pins: 1 IN (power) "Regulator Input Supply. Bypass IN to GND with a 1 uF or greater capacitor.", 2 GND (power) "Ground.", 3 EN (in) "Enable Input. Drive EN high to turn on the regulator; drive it low to turn off the regulator. For automatic startup, connect EN to IN.", 4 ADJ (in) "Adjust. A resistor divider from OUT to ADJ sets the output voltage.", 5 OUT (power) "Regulated Output Voltage. Bypass OUT to GND with a 1 uF or greater capacitor."

## ADP1711AUJZ-0.8-R7
designator U?
150 mA, Low Dropout, CMOS Linear Regulator, 2.5 to 5.5 V Vin, 0.8 V Vout, Industrial, 5-pin SOT23 (UJ-5), Reel; Manufacturer: Analog Devices; PartNumber: ADP1711AUJZ-0.8-R7; Iout max: 150mA; Preset Vout Values (V): 0.8; Supply Current IGND @ Small Load: 35uA; Vin (max) (V): 5.5; Vin (min) (V): 2.5; DatasheetVersion: Rev. 0; PackageVersion: 100708-A, 10/2008; PackageReference: UJ-5; PackageDescription: 5-Pin Thin Small Outline Transistor Package, Body 2.9 x 1.6 mm, Pitch 0.95 mm; Supplier 1: Digi-Key; Supplier Part Number 1: ADP1711AUJZ-0.8-R7TR-ND; Supplier 2: Digi-Key; Supplier Part Number 2: ADP1711AUJZ-0.8-R7CT-ND; Supplier 3: Digi-Key; Supplier Part Number 3: ADP1711AUJZ-0.8-R7DKR-ND; Supplier 4: Mouser; Supplier Part Number 4: 584-ADP1711AUJZ0.8R7; Packing: Reel; Mounting Technology: Surface Mount; Code_JEDEC: MO-193-AB; ComponentLink1Description: Manufacturer URL; ComponentLink1URL: http://www.analog.com/en/index.html; ComponentLink2Description: Datasheet; ComponentLink2URL: http://www.analog.com/static/imported-files/data_sheets/ADP1710_1711.pdf; ComponentLink3Description: Package Specification; ComponentLink3URL: http:/www.analog.com/static/imported-files/packages/PKG_PDF/TSOT(UJ)/UJ_5.pdf; ComponentLink4Description: URL Link1; ComponentLink4URL: Product URL:http://www.analog.com/en/ADP1711/productSearch.html
footprint ADI-UJ-5_N (SOT23, 5-Leads, Body 2.9x1.6mm, Pitch 0.95mm, IPC Medium Density)
footprint ADI-UJ-5_L (SOT23, 5-Leads, Body 2.9x1.6mm, Pitch 0.95mm, IPC High Density)
footprint ADI-UJ-5_M (SOT23, 5-Leads, Body 2.9x1.6mm, Pitch 0.95mm, IPC Low Density)
pins: 1 IN (power) "Regulator Input Supply. Bypass IN to GND with a 1 uF or greater capacitor.", 2 GND (power) "Ground.", 3 EN (in) "Enable Input. Drive EN high to turn on the regulator; drive it low to turn off the regulator. For automatic startup, connect EN to IN.", 4 BYP "Connect a 1 nF or greater capacitor (10 nF is recommended) between BYP and GND to reduce the internal reference noise for low noise applications.", 5 OUT (power) "Regulated Output Voltage. Bypass OUT to GND with a 1 uF or greater capacitor."

## ADP1711AUJZ-0.9-R7
designator U?
150 mA, Low Dropout, CMOS Linear Regulator, 2.5 to 5.5 V Vin, 0.9 V Vout, Industrial, 5-pin SOT23 (UJ-5), Reel; Manufacturer: Analog Devices; PartNumber: ADP1711AUJZ-0.9-R7; Iout max: 150mA; Preset Vout Values (V): 0.9; Supply Current IGND @ Small Load: 35uA; Vin (max) (V): 5.5; Vin (min) (V): 2.5; DatasheetVersion: Rev. 0; PackageVersion: 100708-A, 10/2008; PackageReference: UJ-5; PackageDescription: 5-Pin Thin Small Outline Transistor Package, Body 2.9 x 1.6 mm, Pitch 0.95 mm; Supplier 1: Digi-Key; Supplier Part Number 1: ADP1711AUJZ-0.9-R7TR-ND; Supplier 2: Digi-Key; Supplier Part Number 2: ADP1711AUJZ-0.9-R7CT-ND; Supplier 3: Digi-Key; Supplier Part Number 3: ADP1711AUJZ-0.9-R7DKR-ND; Supplier 4: Mouser; Supplier Part Number 4: 584-ADP1711AUJZ0.9R7; Packing: Reel; Mounting Technology: Surface Mount; Code_JEDEC: MO-193-AB; ComponentLink1Description: Manufacturer URL; ComponentLink1URL: http://www.analog.com/en/index.html; ComponentLink2Description: Datasheet; ComponentLink2URL: http://www.analog.com/static/imported-files/data_sheets/ADP1710_1711.pdf; ComponentLink3Description: Package Specification; ComponentLink3URL: http:/www.analog.com/static/imported-files/packages/PKG_PDF/TSOT(UJ)/UJ_5.pdf; ComponentLink4Description: URL Link1; ComponentLink4URL: Product URL:http://www.analog.com/en/ADP1711/productSearch.html
footprint ADI-UJ-5_N (SOT23, 5-Leads, Body 2.9x1.6mm, Pitch 0.95mm, IPC Medium Density)
footprint ADI-UJ-5_L (SOT23, 5-Leads, Body 2.9x1.6mm, Pitch 0.95mm, IPC High Density)
footprint ADI-UJ-5_M (SOT23, 5-Leads, Body 2.9x1.6mm, Pitch 0.95mm, IPC Low Density)
pins: 1 IN (power) "Regulator Input Supply. Bypass IN to GND with a 1 uF or greater capacitor.", 2 GND (power) "Ground.", 3 EN (in) "Enable Input. Drive EN high to turn on the regulator; drive it low to turn off the regulator. For automatic startup, connect EN to IN.", 4 BYP "Connect a 1 nF or greater capacitor (10 nF is recommended) between BYP and GND to reduce the internal reference noise for low noise applications.", 5 OUT (power) "Regulated Output Voltage. Bypass OUT to GND with a 1 uF or greater capacitor."

## ADP1711AUJZ-0.75R7
designator U?
150 mA, Low Dropout, CMOS Linear Regulator, 2.5 to 5.5 V Vin, 0.75 V Vout, Industrial, 5-pin SOT23 (UJ-5), Reel; Manufacturer: Analog Devices; PartNumber: ADP1711AUJZ-0.75R7; Iout max: 150mA; Preset Vout Values (V): 0.75; Supply Current IGND @ Small Load: 35uA; Vin (max) (V): 5.5; Vin (min) (V): 2.5; DatasheetVersion: Rev. 0; PackageVersion: 100708-A, 10/2008; PackageReference: UJ-5; PackageDescription: 5-Pin Thin Small Outline Transistor Package, Body 2.9 x 1.6 mm, Pitch 0.95 mm; Supplier 1: Digi-Key; Supplier Part Number 1: ADP1711AUJZ-0.75R7TR-ND; Supplier 2: Digi-Key; Supplier Part Number 2: ADP1711AUJZ-0.75R7CT-ND; Supplier 3: Digi-Key; Supplier Part Number 3: ADP1711AUJZ-0.75R7DKR-ND; Supplier 4: Mouser; Supplier Part Number 4: 584-AP1711AUJZ0.75R7; Packing: Reel; Mounting Technology: Surface Mount; Code_JEDEC: MO-193-AB; ComponentLink1Description: Manufacturer URL; ComponentLink1URL: http://www.analog.com/en/index.html; ComponentLink2Description: Datasheet; ComponentLink2URL: http://www.analog.com/static/imported-files/data_sheets/ADP1710_1711.pdf; ComponentLink3Description: Package Specification; ComponentLink3URL: http:/www.analog.com/static/imported-files/packages/PKG_PDF/TSOT(UJ)/UJ_5.pdf; ComponentLink4Description: URL Link1; ComponentLink4URL: Product URL:http://www.analog.com/en/ADP1711/productSearch.html
footprint ADI-UJ-5_N (SOT23, 5-Leads, Body 2.9x1.6mm, Pitch 0.95mm, IPC Medium Density)
footprint ADI-UJ-5_L (SOT23, 5-Leads, Body 2.9x1.6mm, Pitch 0.95mm, IPC High Density)
footprint ADI-UJ-5_M (SOT23, 5-Leads, Body 2.9x1.6mm, Pitch 0.95mm, IPC Low Density)
pins: 1 IN (power) "Regulator Input Supply. Bypass IN to GND with a 1 uF or greater capacitor.", 2 GND (power) "Ground.", 3 EN (in) "Enable Input. Drive EN high to turn on the regulator; drive it low to turn off the regulator. For automatic startup, connect EN to IN.", 4 BYP "Connect a 1 nF or greater capacitor (10 nF is recommended) between BYP and GND to reduce the internal reference noise for low noise applications.", 5 OUT (power) "Regulated Output Voltage. Bypass OUT to GND with a 1 uF or greater capacitor."

## ADP1711AUJZ-0.85R7
designator U?
150 mA, Low Dropout, CMOS Linear Regulator, 2.5 to 5.5 V Vin, 0.85 V Vout, Industrial, 5-pin SOT23 (UJ-5), Reel; Manufacturer: Analog Devices; PartNumber: ADP1711AUJZ-0.85R7; Iout max: 150mA; Preset Vout Values (V): 0.85; Supply Current IGND @ Small Load: 35uA; Vin (max) (V): 5.5; Vin (min) (V): 2.5; DatasheetVersion: Rev. 0; PackageVersion: 100708-A, 10/2008; PackageReference: UJ-5; PackageDescription: 5-Pin Thin Small Outline Transistor Package, Body 2.9 x 1.6 mm, Pitch 0.95 mm; Supplier 1: Digi-Key; Supplier Part Number 1: ADP1711AUJZ-0.85R7TR-ND; Supplier 2: Digi-Key; Supplier Part Number 2: ADP1711AUJZ-0.85R7CT-ND; Supplier 3: Digi-Key; Supplier Part Number 3: ADP1711AUJZ-0.85R7DKR-ND; Supplier 4: Mouser; Supplier Part Number 4: 584-AP1711AUJZ0.85R7; Packing: Reel; Mounting Technology: Surface Mount; Code_JEDEC: MO-193-AB; ComponentLink1Description: Manufacturer URL; ComponentLink1URL: http://www.analog.com/en/index.html; ComponentLink2Description: Datasheet; ComponentLink2URL: http://www.analog.com/static/imported-files/data_sheets/ADP1710_1711.pdf; ComponentLink3Description: Package Specification; ComponentLink3URL: http:/www.analog.com/static/imported-files/packages/PKG_PDF/TSOT(UJ)/UJ_5.pdf; ComponentLink4Description: URL Link1; ComponentLink4URL: Product URL:http://www.analog.com/en/ADP1711/productSearch.html
footprint ADI-UJ-5_N (SOT23, 5-Leads, Body 2.9x1.6mm, Pitch 0.95mm, IPC Medium Density)
footprint ADI-UJ-5_L (SOT23, 5-Leads, Body 2.9x1.6mm, Pitch 0.95mm, IPC High Density)
footprint ADI-UJ-5_M (SOT23, 5-Leads, Body 2.9x1.6mm, Pitch 0.95mm, IPC Low Density)
pins: 1 IN (power) "Regulator Input Supply. Bypass IN to GND with a 1 uF or greater capacitor.", 2 GND (power) "Ground.", 3 EN (in) "Enable Input. Drive EN high to turn on the regulator; drive it low to turn off the regulator. For automatic startup, connect EN to IN.", 4 BYP "Connect a 1 nF or greater capacitor (10 nF is recommended) between BYP and GND to reduce the internal reference noise for low noise applications.", 5 OUT (power) "Regulated Output Voltage. Bypass OUT to GND with a 1 uF or greater capacitor."

## ADP1711AUJZ-0.95R7
designator U?
150 mA, Low Dropout, CMOS Linear Regulator, 2.5 to 5.5 V Vin, 0.95 V Vout, Industrial, 5-pin SOT23 (UJ-5), Reel; Manufacturer: Analog Devices; PartNumber: ADP1711AUJZ-0.95R7; Iout max: 150mA; Preset Vout Values (V): 0.95; Supply Current IGND @ Small Load: 35uA; Vin (max) (V): 5.5; Vin (min) (V): 2.5; DatasheetVersion: Rev. 0; PackageVersion: 100708-A, 10/2008; PackageReference: UJ-5; PackageDescription: 5-Pin Thin Small Outline Transistor Package, Body 2.9 x 1.6 mm, Pitch 0.95 mm; Supplier 1: Digi-Key; Supplier Part Number 1: ADP1711AUJZ-0.95R7TR-ND; Supplier 2: Digi-Key; Supplier Part Number 2: ADP1711AUJZ-0.95R7CT-ND; Supplier 3: Digi-Key; Supplier Part Number 3: ADP1711AUJZ-0.95R7DKR-ND; Supplier 4: Mouser; Supplier Part Number 4: 584-AP1711AUJZ0.95R7; Packing: Reel; Mounting Technology: Surface Mount; Code_JEDEC: MO-193-AB; ComponentLink1Description: Manufacturer URL; ComponentLink1URL: http://www.analog.com/en/index.html; ComponentLink2Description: Datasheet; ComponentLink2URL: http://www.analog.com/static/imported-files/data_sheets/ADP1710_1711.pdf; ComponentLink3Description: Package Specification; ComponentLink3URL: http:/www.analog.com/static/imported-files/packages/PKG_PDF/TSOT(UJ)/UJ_5.pdf; ComponentLink4Description: URL Link1; ComponentLink4URL: Product URL:http://www.analog.com/en/ADP1711/productSearch.html
footprint ADI-UJ-5_N (SOT23, 5-Leads, Body 2.9x1.6mm, Pitch 0.95mm, IPC Medium Density)
footprint ADI-UJ-5_L (SOT23, 5-Leads, Body 2.9x1.6mm, Pitch 0.95mm, IPC High Density)
footprint ADI-UJ-5_M (SOT23, 5-Leads, Body 2.9x1.6mm, Pitch 0.95mm, IPC Low Density)
pins: 1 IN (power) "Regulator Input Supply. Bypass IN to GND with a 1 uF or greater capacitor.", 2 GND (power) "Ground.", 3 EN (in) "Enable Input. Drive EN high to turn on the regulator; drive it low to turn off the regulator. For automatic startup, connect EN to IN.", 4 BYP "Connect a 1 nF or greater capacitor (10 nF is recommended) between BYP and GND to reduce the internal reference noise for low noise applications.", 5 OUT (power) "Regulated Output Voltage. Bypass OUT to GND with a 1 uF or greater capacitor."